# Altium integrated library Microchip Power Management Switching Regulator.IntLib: 304 symbols (part 1 of 9)
Pins are listed as number, name and electrical type; pins without a type are passive.

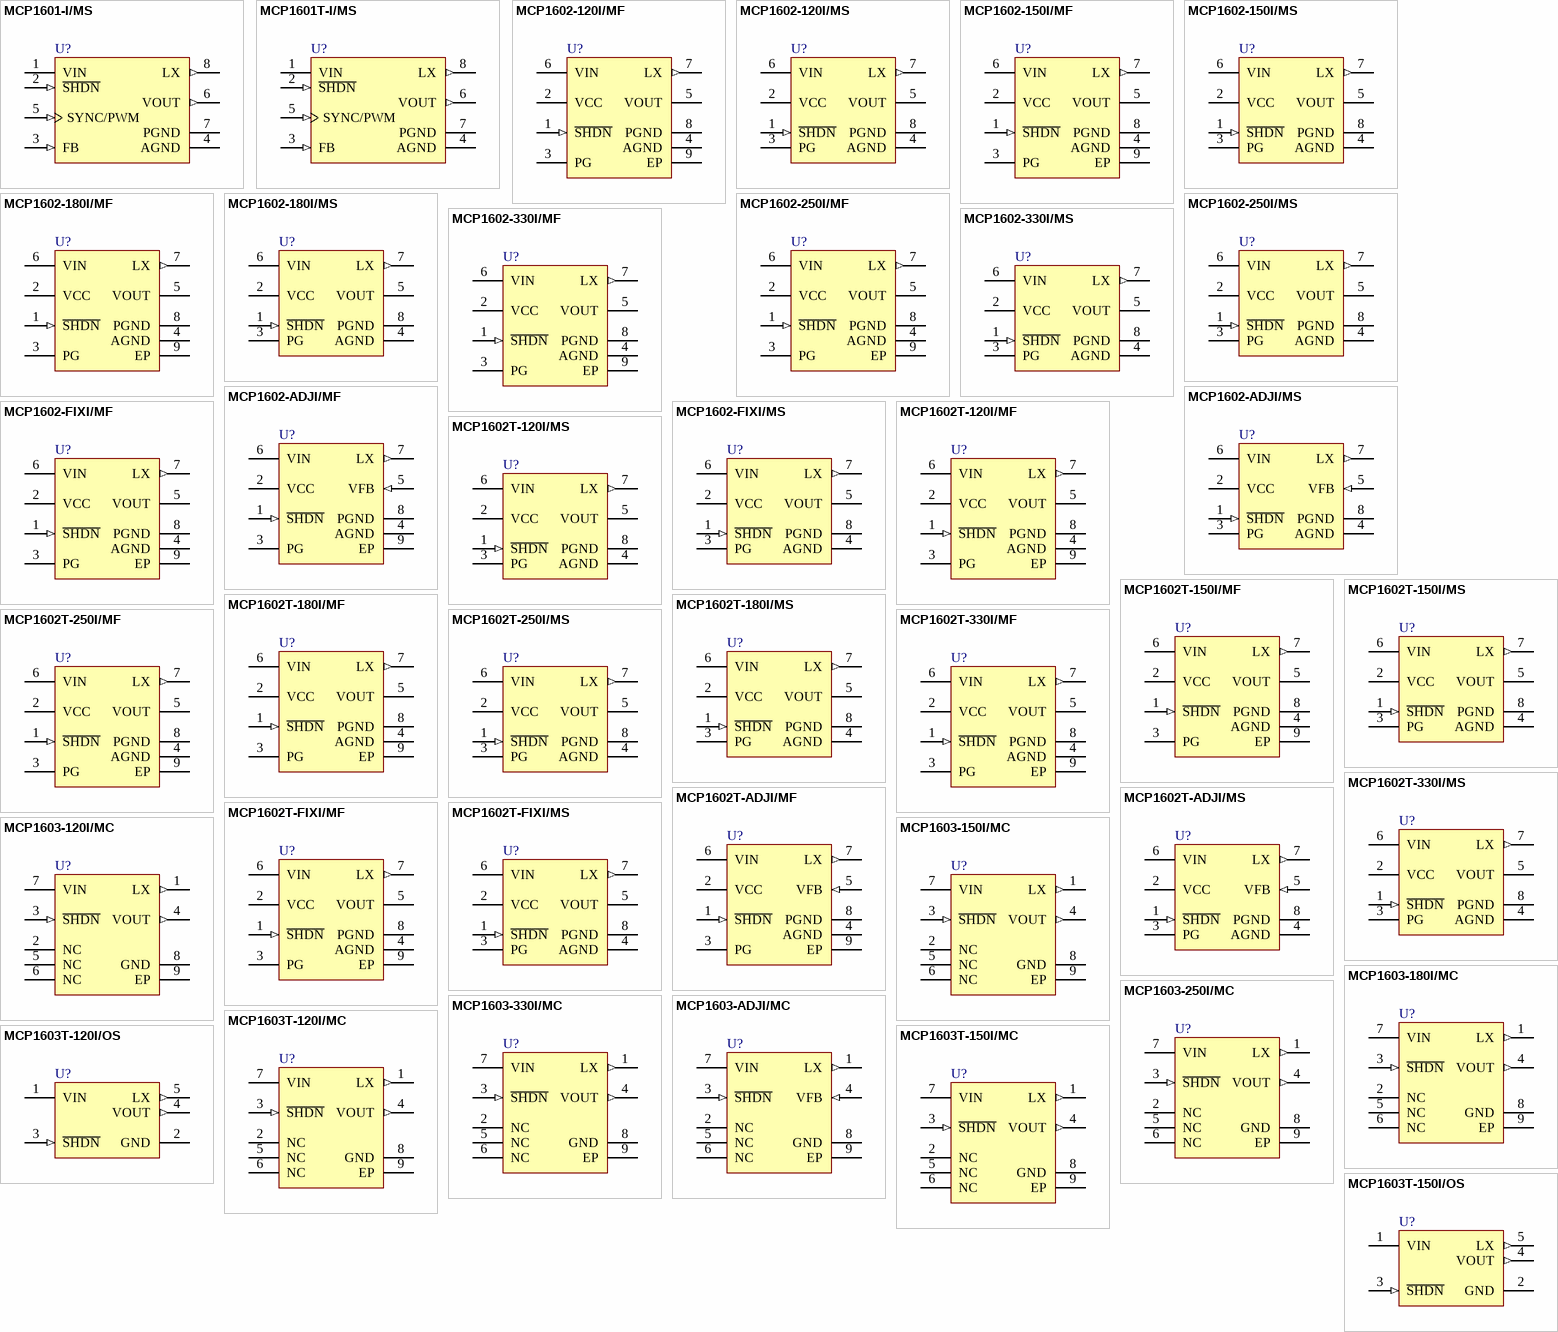
[diagram p0: symbols MCP1601-I/MS to MCP1603T-150I/OS]

## MCP1601-I/MS
designator U?
500mA Synchronous Buck Regulator, Adjustable Output, 750kHz, 8-Pin MSOP, Industrial Temperature; Manufacturer: Microchip; PartNumber: MCP1601-I/MS; DatasheetVersion: revA, Feb-2003; PackageVersion: revBB, Aug-2009; PackageReference: MSOP-MS8; PackageDescription: 8-Lead Plastic Micro Small Outline Package (MS) [MSOP]; Supplier 1: Digi-Key; Supplier Part Number 1: MCP1601-I/MS-ND; Supplier 2: Farnell; Supplier Part Number 2: 1439370; Supplier 3: Newark; Supplier Part Number 3: 03H5063; Supplier 4: Mouser; Supplier Part Number 4: 579-MCP1601-I/MS; Mounting Technology: Surface Mount; ComponentLink1Description: Manufacturer URL; ComponentLink1URL: http://www.microchip.com/; ComponentLink2Description: Datasheet; ComponentLink2URL: http://ww1.microchip.com/downloads/en/DeviceDoc/21762a.pdf; ComponentLink3Description: Package Specification; ComponentLink3URL: http://www.microchip.com/stellent/groups/techpub_sg/documents/packagingspec/en012702.pdf
footprint MSOP-MS8_N (TSOP, 8-Leads, Body 3x3mm, Pitch 0.65mm, IPC Medium Density)
footprint MSOP-MS8_L (TSOP, 8-Leads, Body 3x3mm, Pitch 0.65mm, IPC High Density)
footprint MSOP-MS8_M (TSOP, 8-Leads, Body 3x3mm, Pitch 0.65mm, IPC Low Density)
pins: 1 VIN (power), 2 ~{SHDN} (in), 3 FB (in), 4 AGND (power), 5 SYNC/PWM (in), 6 VOUT (out), 7 PGND (power), 8 LX (out)

## MCP1601T-I/MS
designator U?
500mA Synchronous Buck Regulator, Adjustable Output, 750kHz, 8-Pin MSOP, Industrial Temperature, Tape and Reel; Manufacturer: Microchip; PartNumber: MCP1601T-I/MS; DatasheetVersion: revA, Feb-2003; PackageVersion: revBB, Aug-2009; PackageReference: MSOP-MS8; PackageDescription: 8-Lead Plastic Micro Small Outline Package (MS) [MSOP]; Supplier 1: Digi-Key; Supplier Part Number 1: MCP1601T-I/MS-ND; Supplier 2: Mouser; Supplier Part Number 2: 579-MCP1601T-I/MS; Mounting Technology: Surface Mount; ComponentLink1Description: Manufacturer URL; ComponentLink1URL: http://www.microchip.com/; ComponentLink2Description: Datasheet; ComponentLink2URL: http://ww1.microchip.com/downloads/en/DeviceDoc/21762a.pdf; ComponentLink3Description: Package Specification; ComponentLink3URL: http://www.microchip.com/stellent/groups/techpub_sg/documents/packagingspec/en012702.pdf
footprint MSOP-MS8_N (TSOP, 8-Leads, Body 3x3mm, Pitch 0.65mm, IPC Medium Density)
footprint MSOP-MS8_L (TSOP, 8-Leads, Body 3x3mm, Pitch 0.65mm, IPC High Density)
footprint MSOP-MS8_M (TSOP, 8-Leads, Body 3x3mm, Pitch 0.65mm, IPC Low Density)
pins: 1 VIN (power), 2 ~{SHDN} (in), 3 FB (in), 4 AGND (power), 5 SYNC/PWM (in), 6 VOUT (out), 7 PGND (power), 8 LX (out)

## MCP1602-120I/MF
designator U?
500mA Synchronous Buck Regulator with PG, 1.2V, 2MHz, 8-Pin DFN, Industrial Temperature; Manufacturer: Microchip; PartNumber: MCP1602-120I/MF; DatasheetVersion: revA, Oct-2007; PackageVersion: revBB, Aug-2009; PackageReference: DFN-MF8; PackageDescription: 8-Lead Plastic Dual Flat, No Lead Package (MF) - 3x3x0.9mm Body [DFN]; Supplier 1: Digi-Key; Supplier Part Number 1: MCP1602-120I/MF-ND; Supplier 2: Mouser; Supplier Part Number 2: 579-MCP1602-120I/MF; Mounting Technology: Surface Mount; ComponentLink1Description: Manufacturer URL; ComponentLink1URL: http://www.microchip.com/; ComponentLink2Description: Datasheet; ComponentLink2URL: http://ww1.microchip.com/downloads/en/DeviceDoc/22061a.pdf; ComponentLink3Description: Package Specification; ComponentLink3URL: http://www.microchip.com/stellent/groups/techpub_sg/documents/packagingspec/en012702.pdf
footprint DFN-MF8 (SON, 8-Leads, Body 3x3mm, Pitch 0.65mm, Microchip Recommended)
pins: 1 ~{SHDN} (in), 2 VCC (power), 3 PG (oc), 4 AGND (power), 5 VOUT (power), 6 VIN (power), 7 LX (out), 8 PGND (power), 9 EP (power)

## MCP1602-120I/MS
designator U?
500mA Synchronous Buck Regulator with PG, 1.2V, 2MHz, 8-Pin MSOP, Industrial Temperature; Manufacturer: Microchip; PartNumber: MCP1602-120I/MS; DatasheetVersion: revA, Oct-2007; PackageVersion: revBB, Aug-2009; PackageReference: MSOP-MS8; PackageDescription: 8-Lead Plastic Micro Small Outline Package (MS) [MSOP]; Supplier 1: Digi-Key; Supplier Part Number 1: MCP1602-120I/MS-ND; Supplier 2: Mouser; Supplier Part Number 2: 579-MCP1602-120I/MS; Mounting Technology: Surface Mount; ComponentLink1Description: Manufacturer URL; ComponentLink1URL: http://www.microchip.com/; ComponentLink2Description: Datasheet; ComponentLink2URL: http://ww1.microchip.com/downloads/en/DeviceDoc/22061a.pdf; ComponentLink3Description: Package Specification; ComponentLink3URL: http://www.microchip.com/stellent/groups/techpub_sg/documents/packagingspec/en012702.pdf
footprint MSOP-MS8_N (TSOP, 8-Leads, Body 3x3mm, Pitch 0.65mm, IPC Medium Density)
footprint MSOP-MS8_L (TSOP, 8-Leads, Body 3x3mm, Pitch 0.65mm, IPC High Density)
footprint MSOP-MS8_M (TSOP, 8-Leads, Body 3x3mm, Pitch 0.65mm, IPC Low Density)
pins: 1 ~{SHDN} (in), 2 VCC (power), 3 PG (oc), 4 AGND (power), 5 VOUT (power), 6 VIN (power), 7 LX (out), 8 PGND (power)

## MCP1602-150I/MF
designator U?
500mA Synchronous Buck Regulator with PG, 1.5V, 2MHz, 8-Pin DFN, Industrial Temperature; Manufacturer: Microchip; PartNumber: MCP1602-150I/MF; DatasheetVersion: revA, Oct-2007; PackageVersion: revBB, Aug-2009; PackageReference: DFN-MF8; PackageDescription: 8-Lead Plastic Dual Flat, No Lead Package (MF) - 3x3x0.9mm Body [DFN]; Supplier 1: Digi-Key; Supplier Part Number 1: MCP1602-150I/MF-ND; Supplier 2: Mouser; Supplier Part Number 2: 579-MCP1602-150I/MF; Mounting Technology: Surface Mount; ComponentLink1Description: Manufacturer URL; ComponentLink1URL: http://www.microchip.com/; ComponentLink2Description: Datasheet; ComponentLink2URL: http://ww1.microchip.com/downloads/en/DeviceDoc/22061a.pdf; ComponentLink3Description: Package Specification; ComponentLink3URL: http://www.microchip.com/stellent/groups/techpub_sg/documents/packagingspec/en012702.pdf
footprint DFN-MF8 (SON, 8-Leads, Body 3x3mm, Pitch 0.65mm, Microchip Recommended)
pins: 1 ~{SHDN} (in), 2 VCC (power), 3 PG (oc), 4 AGND (power), 5 VOUT (power), 6 VIN (power), 7 LX (out), 8 PGND (power), 9 EP (power)

## MCP1602-150I/MS
designator U?
500mA Synchronous Buck Regulator with PG, 1.5V, 2MHz, 8-Pin MSOP, Industrial Temperature; Manufacturer: Microchip; PartNumber: MCP1602-150I/MS; DatasheetVersion: revA, Oct-2007; PackageVersion: revBB, Aug-2009; PackageReference: MSOP-MS8; PackageDescription: 8-Lead Plastic Micro Small Outline Package (MS) [MSOP]; Supplier 1: Digi-Key; Supplier Part Number 1: MCP1602-150I/MS-ND; Supplier 2: Mouser; Supplier Part Number 2: 579-MCP1602-150I/MS; Mounting Technology: Surface Mount; ComponentLink1Description: Manufacturer URL; ComponentLink1URL: http://www.microchip.com/; ComponentLink2Description: Datasheet; ComponentLink2URL: http://ww1.microchip.com/downloads/en/DeviceDoc/22061a.pdf; ComponentLink3Description: Package Specification; ComponentLink3URL: http://www.microchip.com/stellent/groups/techpub_sg/documents/packagingspec/en012702.pdf
footprint MSOP-MS8_N (TSOP, 8-Leads, Body 3x3mm, Pitch 0.65mm, IPC Medium Density)
footprint MSOP-MS8_L (TSOP, 8-Leads, Body 3x3mm, Pitch 0.65mm, IPC High Density)
footprint MSOP-MS8_M (TSOP, 8-Leads, Body 3x3mm, Pitch 0.65mm, IPC Low Density)
pins: 1 ~{SHDN} (in), 2 VCC (power), 3 PG (oc), 4 AGND (power), 5 VOUT (power), 6 VIN (power), 7 LX (out), 8 PGND (power)

## MCP1602-180I/MF
designator U?
500mA Synchronous Buck Regulator with PG, 1.8V, 2MHz, 8-Pin DFN, Industrial Temperature; Manufacturer: Microchip; PartNumber: MCP1602-180I/MF; DatasheetVersion: revA, Oct-2007; PackageVersion: revBB, Aug-2009; PackageReference: DFN-MF8; PackageDescription: 8-Lead Plastic Dual Flat, No Lead Package (MF) - 3x3x0.9mm Body [DFN]; Supplier 1: Digi-Key; Supplier Part Number 1: MCP1602-180I/MF-ND; Supplier 2: Mouser; Supplier Part Number 2: 579-MCP1602-180I/MF; Mounting Technology: Surface Mount; ComponentLink1Description: Manufacturer URL; ComponentLink1URL: http://www.microchip.com/; ComponentLink2Description: Datasheet; ComponentLink2URL: http://ww1.microchip.com/downloads/en/DeviceDoc/22061a.pdf; ComponentLink3Description: Package Specification; ComponentLink3URL: http://www.microchip.com/stellent/groups/techpub_sg/documents/packagingspec/en012702.pdf
footprint DFN-MF8 (SON, 8-Leads, Body 3x3mm, Pitch 0.65mm, Microchip Recommended)
pins: 1 ~{SHDN} (in), 2 VCC (power), 3 PG (oc), 4 AGND (power), 5 VOUT (power), 6 VIN (power), 7 LX (out), 8 PGND (power), 9 EP (power)

## MCP1602-180I/MS
designator U?
500mA Synchronous Buck Regulator with PG, 1.8V, 2MHz, 8-Pin MSOP, Industrial Temperature; Manufacturer: Microchip; PartNumber: MCP1602-180I/MS; DatasheetVersion: revA, Oct-2007; PackageVersion: revBB, Aug-2009; PackageReference: MSOP-MS8; PackageDescription: 8-Lead Plastic Micro Small Outline Package (MS) [MSOP]; Supplier 1: Digi-Key; Supplier Part Number 1: MCP1602-180I/MS-ND; Supplier 2: Mouser; Supplier Part Number 2: 579-MCP1602-180I/MS; Mounting Technology: Surface Mount; ComponentLink1Description: Manufacturer URL; ComponentLink1URL: http://www.microchip.com/; ComponentLink2Description: Datasheet; ComponentLink2URL: http://ww1.microchip.com/downloads/en/DeviceDoc/22061a.pdf; ComponentLink3Description: Package Specification; ComponentLink3URL: http://www.microchip.com/stellent/groups/techpub_sg/documents/packagingspec/en012702.pdf
footprint MSOP-MS8_N (TSOP, 8-Leads, Body 3x3mm, Pitch 0.65mm, IPC Medium Density)
footprint MSOP-MS8_L (TSOP, 8-Leads, Body 3x3mm, Pitch 0.65mm, IPC High Density)
footprint MSOP-MS8_M (TSOP, 8-Leads, Body 3x3mm, Pitch 0.65mm, IPC Low Density)
pins: 1 ~{SHDN} (in), 2 VCC (power), 3 PG (oc), 4 AGND (power), 5 VOUT (power), 6 VIN (power), 7 LX (out), 8 PGND (power)

## MCP1602-250I/MF
designator U?
500mA Synchronous Buck Regulator with PG, 2.5V, 2MHz, 8-Pin DFN, Industrial Temperature; Manufacturer: Microchip; PartNumber: MCP1602-250I/MF; DatasheetVersion: revA, Oct-2007; PackageVersion: revBB, Aug-2009; PackageReference: DFN-MF8; PackageDescription: 8-Lead Plastic Dual Flat, No Lead Package (MF) - 3x3x0.9mm Body [DFN]; Supplier 1: Digi-Key; Supplier Part Number 1: MCP1602-250I/MF-ND; Supplier 2: Mouser; Supplier Part Number 2: 579-MCP1602-250I/MF; Mounting Technology: Surface Mount; ComponentLink1Description: Manufacturer URL; ComponentLink1URL: http://www.microchip.com/; ComponentLink2Description: Datasheet; ComponentLink2URL: http://ww1.microchip.com/downloads/en/DeviceDoc/22061a.pdf; ComponentLink3Description: Package Specification; ComponentLink3URL: http://www.microchip.com/stellent/groups/techpub_sg/documents/packagingspec/en012702.pdf
footprint DFN-MF8 (SON, 8-Leads, Body 3x3mm, Pitch 0.65mm, Microchip Recommended)
pins: 1 ~{SHDN} (in), 2 VCC (power), 3 PG (oc), 4 AGND (power), 5 VOUT (power), 6 VIN (power), 7 LX (out), 8 PGND (power), 9 EP (power)

## MCP1602-250I/MS
designator U?
500mA Synchronous Buck Regulator with PG, 2.5V, 2MHz, 8-Pin MSOP, Industrial Temperature; Manufacturer: Microchip; PartNumber: MCP1602-250I/MS; DatasheetVersion: revA, Oct-2007; PackageVersion: revBB, Aug-2009; PackageReference: MSOP-MS8; PackageDescription: 8-Lead Plastic Micro Small Outline Package (MS) [MSOP]; Supplier 1: Digi-Key; Supplier Part Number 1: MCP1602-250I/MS-ND; Supplier 2: Farnell; Supplier Part Number 2: 1851928; Supplier 3: Newark; Supplier Part Number 3: 88K5539; Supplier 4: Mouser; Supplier Part Number 4: 579-MCP1602-250I/MS; Mounting Technology: Surface Mount; ComponentLink1Description: Manufacturer URL; ComponentLink1URL: http://www.microchip.com/; ComponentLink2Description: Datasheet; ComponentLink2URL: http://ww1.microchip.com/downloads/en/DeviceDoc/22061a.pdf; ComponentLink3Description: Package Specification; ComponentLink3URL: http://www.microchip.com/stellent/groups/techpub_sg/documents/packagingspec/en012702.pdf
footprint MSOP-MS8_N (TSOP, 8-Leads, Body 3x3mm, Pitch 0.65mm, IPC Medium Density)
footprint MSOP-MS8_L (TSOP, 8-Leads, Body 3x3mm, Pitch 0.65mm, IPC High Density)
footprint MSOP-MS8_M (TSOP, 8-Leads, Body 3x3mm, Pitch 0.65mm, IPC Low Density)
pins: 1 ~{SHDN} (in), 2 VCC (power), 3 PG (oc), 4 AGND (power), 5 VOUT (power), 6 VIN (power), 7 LX (out), 8 PGND (power)

## MCP1602-330I/MF
designator U?
500mA Synchronous Buck Regulator with PG, 3.3V, 2MHz, 8-Pin DFN, Industrial Temperature; Manufacturer: Microchip; PartNumber: MCP1602-330I/MF; DatasheetVersion: revA, Oct-2007; PackageVersion: revBB, Aug-2009; PackageReference: DFN-MF8; PackageDescription: 8-Lead Plastic Dual Flat, No Lead Package (MF) - 3x3x0.9mm Body [DFN]; Supplier 1: Digi-Key; Supplier Part Number 1: MCP1602-330I/MF-ND; Supplier 2: Mouser; Supplier Part Number 2: 579-MCP1602-330I/MF; Mounting Technology: Surface Mount; ComponentLink1Description: Manufacturer URL; ComponentLink1URL: http://www.microchip.com/; ComponentLink2Description: Datasheet; ComponentLink2URL: http://ww1.microchip.com/downloads/en/DeviceDoc/22061a.pdf; ComponentLink3Description: Package Specification; ComponentLink3URL: http://www.microchip.com/stellent/groups/techpub_sg/documents/packagingspec/en012702.pdf
footprint DFN-MF8 (SON, 8-Leads, Body 3x3mm, Pitch 0.65mm, Microchip Recommended)
pins: 1 ~{SHDN} (in), 2 VCC (power), 3 PG (oc), 4 AGND (power), 5 VOUT (power), 6 VIN (power), 7 LX (out), 8 PGND (power), 9 EP (power)

## MCP1602-330I/MS
designator U?
500mA Synchronous Buck Regulator with PG, 3.3V, 2MHz, 8-Pin MSOP, Industrial Temperature; Manufacturer: Microchip; PartNumber: MCP1602-330I/MS; DatasheetVersion: revA, Oct-2007; PackageVersion: revBB, Aug-2009; PackageReference: MSOP-MS8; PackageDescription: 8-Lead Plastic Micro Small Outline Package (MS) [MSOP]; Supplier 1: Digi-Key; Supplier Part Number 1: MCP1602-330I/MS-ND; Supplier 2: Farnell; Supplier Part Number 2: 1578359; Supplier 3: Newark; Supplier Part Number 3: 08N6436; Supplier 4: Mouser; Supplier Part Number 4: 579-MCP1602-330I/MS; Mounting Technology: Surface Mount; ComponentLink1Description: Manufacturer URL; ComponentLink1URL: http://www.microchip.com/; ComponentLink2Description: Datasheet; ComponentLink2URL: http://ww1.microchip.com/downloads/en/DeviceDoc/22061a.pdf; ComponentLink3Description: Package Specification; ComponentLink3URL: http://www.microchip.com/stellent/groups/techpub_sg/documents/packagingspec/en012702.pdf
footprint MSOP-MS8_N (TSOP, 8-Leads, Body 3x3mm, Pitch 0.65mm, IPC Medium Density)
footprint MSOP-MS8_L (TSOP, 8-Leads, Body 3x3mm, Pitch 0.65mm, IPC High Density)
footprint MSOP-MS8_M (TSOP, 8-Leads, Body 3x3mm, Pitch 0.65mm, IPC Low Density)
pins: 1 ~{SHDN} (in), 2 VCC (power), 3 PG (oc), 4 AGND (power), 5 VOUT (power), 6 VIN (power), 7 LX (out), 8 PGND (power)

## MCP1602-ADJI/MF
designator U?
500mA Synchronous Buck Regulator with PG, Adjustable Output, 2MHz, 8-Pin DFN, Industrial Temperature; Manufacturer: Microchip; PartNumber: MCP1602-ADJI/MF; DatasheetVersion: revA, Oct-2007; PackageVersion: revBB, Aug-2009; PackageReference: DFN-MF8; PackageDescription: 8-Lead Plastic Dual Flat, No Lead Package (MF) - 3x3x0.9mm Body [DFN]; Supplier 1: Digi-Key; Supplier Part Number 1: MCP1602-ADJI/MF-ND; Supplier 2: Mouser; Supplier Part Number 2: 579-MCP1602-ADJI/MF; Mounting Technology: Surface Mount; ComponentLink1Description: Manufacturer URL; ComponentLink1URL: http://www.microchip.com/; ComponentLink2Description: Datasheet; ComponentLink2URL: http://ww1.microchip.com/downloads/en/DeviceDoc/22061a.pdf; ComponentLink3Description: Package Specification; ComponentLink3URL: http://www.microchip.com/stellent/groups/techpub_sg/documents/packagingspec/en012702.pdf
footprint DFN-MF8 (SON, 8-Leads, Body 3x3mm, Pitch 0.65mm, Microchip Recommended)
pins: 1 ~{SHDN} (in), 2 VCC (power), 3 PG (oc), 4 AGND (power), 5 VFB (in), 6 VIN (power), 7 LX (out), 8 PGND (power), 9 EP (power)

## MCP1602-ADJI/MS
designator U?
500mA Synchronous Buck Regulator with PG, Adjustable Output, 2MHz, 8-Pin MSOP, Industrial Temperature; Manufacturer: Microchip; PartNumber: MCP1602-ADJI/MS; DatasheetVersion: revA, Oct-2007; PackageVersion: revBB, Aug-2009; PackageReference: MSOP-MS8; PackageDescription: 8-Lead Plastic Micro Small Outline Package (MS) [MSOP]; Supplier 1: Digi-Key; Supplier Part Number 1: MCP1602-ADJI/MS-ND; Supplier 2: Farnell; Supplier Part Number 2: 1578361; Supplier 3: Mouser; Supplier Part Number 3: 579-MCP1602-ADJI/MS; Mounting Technology: Surface Mount; ComponentLink1Description: Manufacturer URL; ComponentLink1URL: http://www.microchip.com/; ComponentLink2Description: Datasheet; ComponentLink2URL: http://ww1.microchip.com/downloads/en/DeviceDoc/22061a.pdf; ComponentLink3Description: Package Specification; ComponentLink3URL: http://www.microchip.com/stellent/groups/techpub_sg/documents/packagingspec/en012702.pdf
footprint MSOP-MS8_N (TSOP, 8-Leads, Body 3x3mm, Pitch 0.65mm, IPC Medium Density)
footprint MSOP-MS8_L (TSOP, 8-Leads, Body 3x3mm, Pitch 0.65mm, IPC High Density)
footprint MSOP-MS8_M (TSOP, 8-Leads, Body 3x3mm, Pitch 0.65mm, IPC Low Density)
pins: 1 ~{SHDN} (in), 2 VCC (power), 3 PG (oc), 4 AGND (power), 5 VFB (in), 6 VIN (power), 7 LX (out), 8 PGND (power)

## MCP1602-FIXI/MF
designator U?
500mA Synchronous Buck Regulator with PG, 2MHz, 8-Pin DFN, Industrial Temperature; Manufacturer: Microchip; PartNumber: MCP1602-FIXI/MF; DatasheetVersion: revA, Oct-2007; PackageVersion: revBB, Aug-2009; PackageReference: DFN-MF8; PackageDescription: 8-Lead Plastic Dual Flat, No Lead Package (MF) - 3x3x0.9mm Body [DFN]; Mounting Technology: Surface Mount; ComponentLink1Description: Manufacturer URL; ComponentLink1URL: http://www.microchip.com/; ComponentLink2Description: Datasheet; ComponentLink2URL: http://ww1.microchip.com/downloads/en/DeviceDoc/22061a.pdf; ComponentLink3Description: Package Specification; ComponentLink3URL: http://www.microchip.com/stellent/groups/techpub_sg/documents/packagingspec/en012702.pdf
footprint DFN-MF8 (SON, 8-Leads, Body 3x3mm, Pitch 0.65mm, Microchip Recommended)
pins: 1 ~{SHDN} (in), 2 VCC (power), 3 PG (oc), 4 AGND (power), 5 VOUT (power), 6 VIN (power), 7 LX (out), 8 PGND (power), 9 EP (power)

## MCP1602-FIXI/MS
designator U?
500mA Synchronous Buck Regulator with PG, 2MHz, 8-Pin MSOP, Industrial Temperature; Manufacturer: Microchip; PartNumber: MCP1602-FIXI/MS; DatasheetVersion: revA, Oct-2007; PackageVersion: revBB, Aug-2009; PackageReference: MSOP-MS8; PackageDescription: 8-Lead Plastic Micro Small Outline Package (MS) [MSOP]; Mounting Technology: Surface Mount; ComponentLink1Description: Manufacturer URL; ComponentLink1URL: http://www.microchip.com/; ComponentLink2Description: Datasheet; ComponentLink2URL: http://ww1.microchip.com/downloads/en/DeviceDoc/22061a.pdf; ComponentLink3Description: Package Specification; ComponentLink3URL: http://www.microchip.com/stellent/groups/techpub_sg/documents/packagingspec/en012702.pdf
footprint MSOP-MS8_N (TSOP, 8-Leads, Body 3x3mm, Pitch 0.65mm, IPC Medium Density)
footprint MSOP-MS8_L (TSOP, 8-Leads, Body 3x3mm, Pitch 0.65mm, IPC High Density)
footprint MSOP-MS8_M (TSOP, 8-Leads, Body 3x3mm, Pitch 0.65mm, IPC Low Density)
pins: 1 ~{SHDN} (in), 2 VCC (power), 3 PG (oc), 4 AGND (power), 5 VOUT (power), 6 VIN (power), 7 LX (out), 8 PGND (power)

## MCP1602T-120I/MF
designator U?
500mA Synchronous Buck Regulator with PG, 1.2V, 2MHz, 8-Pin DFN, Industrial Temperature, Tape and Reel; Manufacturer: Microchip; PartNumber: MCP1602T-120I/MF; DatasheetVersion: revA, Oct-2007; PackageVersion: revBB, Aug-2009; PackageReference: DFN-MF8; PackageDescription: 8-Lead Plastic Dual Flat, No Lead Package (MF) - 3x3x0.9mm Body [DFN]; Supplier 1: Digi-Key; Supplier Part Number 1: MCP1602T-120I/MFTR-ND; Supplier 2: Mouser; Supplier Part Number 2: 579-MCP1602T-120I/MF; Mounting Technology: Surface Mount; ComponentLink1Description: Manufacturer URL; ComponentLink1URL: http://www.microchip.com/; ComponentLink2Description: Datasheet; ComponentLink2URL: http://ww1.microchip.com/downloads/en/DeviceDoc/22061a.pdf; ComponentLink3Description: Package Specification; ComponentLink3URL: http://www.microchip.com/stellent/groups/techpub_sg/documents/packagingspec/en012702.pdf
footprint DFN-MF8 (SON, 8-Leads, Body 3x3mm, Pitch 0.65mm, Microchip Recommended)
pins: 1 ~{SHDN} (in), 2 VCC (power), 3 PG (oc), 4 AGND (power), 5 VOUT (power), 6 VIN (power), 7 LX (out), 8 PGND (power), 9 EP (power)

## MCP1602T-120I/MS
designator U?
500mA Synchronous Buck Regulator with PG, 1.2V, 2MHz, 8-Pin MSOP, Industrial Temperature, Tape and Reel; Manufacturer: Microchip; PartNumber: MCP1602T-120I/MS; DatasheetVersion: revA, Oct-2007; PackageVersion: revBB, Aug-2009; PackageReference: MSOP-MS8; PackageDescription: 8-Lead Plastic Micro Small Outline Package (MS) [MSOP]; Supplier 1: Digi-Key; Supplier Part Number 1: MCP1602T-120I/MSTR-ND; Supplier 2: Mouser; Supplier Part Number 2: 579-MCP1602T-120I/MS; Mounting Technology: Surface Mount; ComponentLink1Description: Manufacturer URL; ComponentLink1URL: http://www.microchip.com/; ComponentLink2Description: Datasheet; ComponentLink2URL: http://ww1.microchip.com/downloads/en/DeviceDoc/22061a.pdf; ComponentLink3Description: Package Specification; ComponentLink3URL: http://www.microchip.com/stellent/groups/techpub_sg/documents/packagingspec/en012702.pdf
footprint MSOP-MS8_N (TSOP, 8-Leads, Body 3x3mm, Pitch 0.65mm, IPC Medium Density)
footprint MSOP-MS8_L (TSOP, 8-Leads, Body 3x3mm, Pitch 0.65mm, IPC High Density)
footprint MSOP-MS8_M (TSOP, 8-Leads, Body 3x3mm, Pitch 0.65mm, IPC Low Density)
pins: 1 ~{SHDN} (in), 2 VCC (power), 3 PG (oc), 4 AGND (power), 5 VOUT (power), 6 VIN (power), 7 LX (out), 8 PGND (power)

## MCP1602T-150I/MF
designator U?
500mA Synchronous Buck Regulator with PG, 1.5V, 2MHz, 8-Pin DFN, Industrial Temperature, Tape and Reel; Manufacturer: Microchip; PartNumber: MCP1602T-150I/MF; DatasheetVersion: revA, Oct-2007; PackageVersion: revBB, Aug-2009; PackageReference: DFN-MF8; PackageDescription: 8-Lead Plastic Dual Flat, No Lead Package (MF) - 3x3x0.9mm Body [DFN]; Supplier 1: Digi-Key; Supplier Part Number 1: MCP1602T-150I/MFTR-ND; Supplier 2: Mouser; Supplier Part Number 2: 579-MCP1602T-150I/MF; Mounting Technology: Surface Mount; ComponentLink1Description: Manufacturer URL; ComponentLink1URL: http://www.microchip.com/; ComponentLink2Description: Datasheet; ComponentLink2URL: http://ww1.microchip.com/downloads/en/DeviceDoc/22061a.pdf; ComponentLink3Description: Package Specification; ComponentLink3URL: http://www.microchip.com/stellent/groups/techpub_sg/documents/packagingspec/en012702.pdf
footprint DFN-MF8 (SON, 8-Leads, Body 3x3mm, Pitch 0.65mm, Microchip Recommended)
pins: 1 ~{SHDN} (in), 2 VCC (power), 3 PG (oc), 4 AGND (power), 5 VOUT (power), 6 VIN (power), 7 LX (out), 8 PGND (power), 9 EP (power)

## MCP1602T-150I/MS
designator U?
500mA Synchronous Buck Regulator with PG, 1.5V, 2MHz, 8-Pin MSOP, Industrial Temperature, Tape and Reel; Manufacturer: Microchip; PartNumber: MCP1602T-150I/MS; DatasheetVersion: revA, Oct-2007; PackageVersion: revBB, Aug-2009; PackageReference: MSOP-MS8; PackageDescription: 8-Lead Plastic Micro Small Outline Package (MS) [MSOP]; Supplier 1: Digi-Key; Supplier Part Number 1: MCP1602T-150I/MSTR-ND; Supplier 2: Mouser; Supplier Part Number 2: 579-MCP1602T-150I/MS; Mounting Technology: Surface Mount; ComponentLink1Description: Manufacturer URL; ComponentLink1URL: http://www.microchip.com/; ComponentLink2Description: Datasheet; ComponentLink2URL: http://ww1.microchip.com/downloads/en/DeviceDoc/22061a.pdf; ComponentLink3Description: Package Specification; ComponentLink3URL: http://www.microchip.com/stellent/groups/techpub_sg/documents/packagingspec/en012702.pdf
footprint MSOP-MS8_N (TSOP, 8-Leads, Body 3x3mm, Pitch 0.65mm, IPC Medium Density)
footprint MSOP-MS8_L (TSOP, 8-Leads, Body 3x3mm, Pitch 0.65mm, IPC High Density)
footprint MSOP-MS8_M (TSOP, 8-Leads, Body 3x3mm, Pitch 0.65mm, IPC Low Density)
pins: 1 ~{SHDN} (in), 2 VCC (power), 3 PG (oc), 4 AGND (power), 5 VOUT (power), 6 VIN (power), 7 LX (out), 8 PGND (power)

## MCP1602T-180I/MF
designator U?
500mA Synchronous Buck Regulator with PG, 1.8V, 2MHz, 8-Pin DFN, Industrial Temperature, Tape and Reel; Manufacturer: Microchip; PartNumber: MCP1602T-180I/MF; DatasheetVersion: revA, Oct-2007; PackageVersion: revBB, Aug-2009; PackageReference: DFN-MF8; PackageDescription: 8-Lead Plastic Dual Flat, No Lead Package (MF) - 3x3x0.9mm Body [DFN]; Supplier 1: Digi-Key; Supplier Part Number 1: MCP1602T-180I/MFTR-ND; Supplier 2: Mouser; Supplier Part Number 2: 579-MCP1602T-180I/MF; Mounting Technology: Surface Mount; ComponentLink1Description: Manufacturer URL; ComponentLink1URL: http://www.microchip.com/; ComponentLink2Description: Datasheet; ComponentLink2URL: http://ww1.microchip.com/downloads/en/DeviceDoc/22061a.pdf; ComponentLink3Description: Package Specification; ComponentLink3URL: http://www.microchip.com/stellent/groups/techpub_sg/documents/packagingspec/en012702.pdf
footprint DFN-MF8 (SON, 8-Leads, Body 3x3mm, Pitch 0.65mm, Microchip Recommended)
pins: 1 ~{SHDN} (in), 2 VCC (power), 3 PG (oc), 4 AGND (power), 5 VOUT (power), 6 VIN (power), 7 LX (out), 8 PGND (power), 9 EP (power)

## MCP1602T-180I/MS
designator U?
500mA Synchronous Buck Regulator with PG, 1.8V, 2MHz, 8-Pin MSOP, Industrial Temperature, Tape and Reel; Manufacturer: Microchip; PartNumber: MCP1602T-180I/MS; DatasheetVersion: revA, Oct-2007; PackageVersion: revBB, Aug-2009; PackageReference: MSOP-MS8; PackageDescription: 8-Lead Plastic Micro Small Outline Package (MS) [MSOP]; Supplier 1: Digi-Key; Supplier Part Number 1: MCP1602T-180I/MSTR-ND; Supplier 2: Mouser; Supplier Part Number 2: 579-MCP1602T-180I/MS; Mounting Technology: Surface Mount; ComponentLink1Description: Manufacturer URL; ComponentLink1URL: http://www.microchip.com/; ComponentLink2Description: Datasheet; ComponentLink2URL: http://ww1.microchip.com/downloads/en/DeviceDoc/22061a.pdf; ComponentLink3Description: Package Specification; ComponentLink3URL: http://www.microchip.com/stellent/groups/techpub_sg/documents/packagingspec/en012702.pdf
footprint MSOP-MS8_N (TSOP, 8-Leads, Body 3x3mm, Pitch 0.65mm, IPC Medium Density)
footprint MSOP-MS8_L (TSOP, 8-Leads, Body 3x3mm, Pitch 0.65mm, IPC High Density)
footprint MSOP-MS8_M (TSOP, 8-Leads, Body 3x3mm, Pitch 0.65mm, IPC Low Density)
pins: 1 ~{SHDN} (in), 2 VCC (power), 3 PG (oc), 4 AGND (power), 5 VOUT (power), 6 VIN (power), 7 LX (out), 8 PGND (power)

## MCP1602T-250I/MF
designator U?
500mA Synchronous Buck Regulator with PG, 2.5V, 2MHz, 8-Pin DFN, Industrial Temperature, Tape and Reel; Manufacturer: Microchip; PartNumber: MCP1602T-250I/MF; DatasheetVersion: revA, Oct-2007; PackageVersion: revBB, Aug-2009; PackageReference: DFN-MF8; PackageDescription: 8-Lead Plastic Dual Flat, No Lead Package (MF) - 3x3x0.9mm Body [DFN]; Supplier 1: Digi-Key; Supplier Part Number 1: MCP1602T-250I/MFTR-ND; Supplier 2: Mouser; Supplier Part Number 2: 579-MCP1602T-250I/MF; Mounting Technology: Surface Mount; ComponentLink1Description: Manufacturer URL; ComponentLink1URL: http://www.microchip.com/; ComponentLink2Description: Datasheet; ComponentLink2URL: http://ww1.microchip.com/downloads/en/DeviceDoc/22061a.pdf; ComponentLink3Description: Package Specification; ComponentLink3URL: http://www.microchip.com/stellent/groups/techpub_sg/documents/packagingspec/en012702.pdf
footprint DFN-MF8 (SON, 8-Leads, Body 3x3mm, Pitch 0.65mm, Microchip Recommended)
pins: 1 ~{SHDN} (in), 2 VCC (power), 3 PG (oc), 4 AGND (power), 5 VOUT (power), 6 VIN (power), 7 LX (out), 8 PGND (power), 9 EP (power)

## MCP1602T-250I/MS
designator U?
500mA Synchronous Buck Regulator with PG, 2.5V, 2MHz, 8-Pin MSOP, Industrial Temperature, Tape and Reel; Manufacturer: Microchip; PartNumber: MCP1602T-250I/MS; DatasheetVersion: revA, Oct-2007; PackageVersion: revBB, Aug-2009; PackageReference: MSOP-MS8; PackageDescription: 8-Lead Plastic Micro Small Outline Package (MS) [MSOP]; Supplier 1: Digi-Key; Supplier Part Number 1: MCP1602T-250I/MSTR-ND; Supplier 2: Mouser; Supplier Part Number 2: 579-MCP1602T-250I/MS; Mounting Technology: Surface Mount; ComponentLink1Description: Manufacturer URL; ComponentLink1URL: http://www.microchip.com/; ComponentLink2Description: Datasheet; ComponentLink2URL: http://ww1.microchip.com/downloads/en/DeviceDoc/22061a.pdf; ComponentLink3Description: Package Specification; ComponentLink3URL: http://www.microchip.com/stellent/groups/techpub_sg/documents/packagingspec/en012702.pdf
footprint MSOP-MS8_N (TSOP, 8-Leads, Body 3x3mm, Pitch 0.65mm, IPC Medium Density)
footprint MSOP-MS8_L (TSOP, 8-Leads, Body 3x3mm, Pitch 0.65mm, IPC High Density)
footprint MSOP-MS8_M (TSOP, 8-Leads, Body 3x3mm, Pitch 0.65mm, IPC Low Density)
pins: 1 ~{SHDN} (in), 2 VCC (power), 3 PG (oc), 4 AGND (power), 5 VOUT (power), 6 VIN (power), 7 LX (out), 8 PGND (power)

## MCP1602T-330I/MF
designator U?
500mA Synchronous Buck Regulator with PG, 3.3V, 2MHz, 8-Pin DFN, Industrial Temperature, Tape and Reel; Manufacturer: Microchip; PartNumber: MCP1602T-330I/MF; DatasheetVersion: revA, Oct-2007; PackageVersion: revBB, Aug-2009; PackageReference: DFN-MF8; PackageDescription: 8-Lead Plastic Dual Flat, No Lead Package (MF) - 3x3x0.9mm Body [DFN]; Supplier 1: Digi-Key; Supplier Part Number 1: MCP1602T-330I/MFTR-ND; Supplier 2: Mouser; Supplier Part Number 2: 579-MCP1602T-330I/MF; Mounting Technology: Surface Mount; ComponentLink1Description: Manufacturer URL; ComponentLink1URL: http://www.microchip.com/; ComponentLink2Description: Datasheet; ComponentLink2URL: http://ww1.microchip.com/downloads/en/DeviceDoc/22061a.pdf; ComponentLink3Description: Package Specification; ComponentLink3URL: http://www.microchip.com/stellent/groups/techpub_sg/documents/packagingspec/en012702.pdf
footprint DFN-MF8 (SON, 8-Leads, Body 3x3mm, Pitch 0.65mm, Microchip Recommended)
pins: 1 ~{SHDN} (in), 2 VCC (power), 3 PG (oc), 4 AGND (power), 5 VOUT (power), 6 VIN (power), 7 LX (out), 8 PGND (power), 9 EP (power)

## MCP1602T-330I/MS
designator U?
500mA Synchronous Buck Regulator with PG, 3.3V, 2MHz, 8-Pin MSOP, Industrial Temperature, Tape and Reel; Manufacturer: Microchip; PartNumber: MCP1602T-330I/MS; DatasheetVersion: revA, Oct-2007; PackageVersion: revBB, Aug-2009; PackageReference: MSOP-MS8; PackageDescription: 8-Lead Plastic Micro Small Outline Package (MS) [MSOP]; Supplier 1: Digi-Key; Supplier Part Number 1: MCP1602T-330I/MSTR-ND; Supplier 2: Mouser; Supplier Part Number 2: 579-MCP1602T-330I/MS; Mounting Technology: Surface Mount; ComponentLink1Description: Manufacturer URL; ComponentLink1URL: http://www.microchip.com/; ComponentLink2Description: Datasheet; ComponentLink2URL: http://ww1.microchip.com/downloads/en/DeviceDoc/22061a.pdf; ComponentLink3Description: Package Specification; ComponentLink3URL: http://www.microchip.com/stellent/groups/techpub_sg/documents/packagingspec/en012702.pdf
footprint MSOP-MS8_N (TSOP, 8-Leads, Body 3x3mm, Pitch 0.65mm, IPC Medium Density)
footprint MSOP-MS8_L (TSOP, 8-Leads, Body 3x3mm, Pitch 0.65mm, IPC High Density)
footprint MSOP-MS8_M (TSOP, 8-Leads, Body 3x3mm, Pitch 0.65mm, IPC Low Density)
pins: 1 ~{SHDN} (in), 2 VCC (power), 3 PG (oc), 4 AGND (power), 5 VOUT (power), 6 VIN (power), 7 LX (out), 8 PGND (power)

## MCP1602T-ADJI/MF
designator U?
500mA Synchronous Buck Regulator with PG, Adjustable Output, 2MHz, 8-Pin DFN, Industrial Temperature, Tape and Reel; Manufacturer: Microchip; PartNumber: MCP1602T-ADJI/MF; DatasheetVersion: revA, Oct-2007; PackageVersion: revBB, Aug-2009; PackageReference: DFN-MF8; PackageDescription: 8-Lead Plastic Dual Flat, No Lead Package (MF) - 3x3x0.9mm Body [DFN]; Supplier 1: Digi-Key; Supplier Part Number 1: MCP1602T-ADJI/MFTR-ND; Supplier 2: Mouser; Supplier Part Number 2: 579-MCP1602T-ADJI/MF; Mounting Technology: Surface Mount; ComponentLink1Description: Manufacturer URL; ComponentLink1URL: http://www.microchip.com/; ComponentLink2Description: Datasheet; ComponentLink2URL: http://ww1.microchip.com/downloads/en/DeviceDoc/22061a.pdf; ComponentLink3Description: Package Specification; ComponentLink3URL: http://www.microchip.com/stellent/groups/techpub_sg/documents/packagingspec/en012702.pdf
footprint DFN-MF8 (SON, 8-Leads, Body 3x3mm, Pitch 0.65mm, Microchip Recommended)
pins: 1 ~{SHDN} (in), 2 VCC (power), 3 PG (oc), 4 AGND (power), 5 VFB (in), 6 VIN (power), 7 LX (out), 8 PGND (power), 9 EP (power)

## MCP1602T-ADJI/MS
designator U?
500mA Synchronous Buck Regulator with PG, Adjustable Output, 2MHz, 8-Pin MSOP, Industrial Temperature, Tape and Reel; Manufacturer: Microchip; PartNumber: MCP1602T-ADJI/MS; DatasheetVersion: revA, Oct-2007; PackageVersion: revBB, Aug-2009; PackageReference: MSOP-MS8; PackageDescription: 8-Lead Plastic Micro Small Outline Package (MS) [MSOP]; Supplier 1: Digi-Key; Supplier Part Number 1: MCP1602T-ADJI/MSTR-ND; Supplier 2: Mouser; Supplier Part Number 2: 579-MCP1602T-ADJI/MS; Mounting Technology: Surface Mount; ComponentLink1Description: Manufacturer URL; ComponentLink1URL: http://www.microchip.com/; ComponentLink2Description: Datasheet; ComponentLink2URL: http://ww1.microchip.com/downloads/en/DeviceDoc/22061a.pdf; ComponentLink3Description: Package Specification; ComponentLink3URL: http://www.microchip.com/stellent/groups/techpub_sg/documents/packagingspec/en012702.pdf
footprint MSOP-MS8_N (TSOP, 8-Leads, Body 3x3mm, Pitch 0.65mm, IPC Medium Density)
footprint MSOP-MS8_L (TSOP, 8-Leads, Body 3x3mm, Pitch 0.65mm, IPC High Density)
footprint MSOP-MS8_M (TSOP, 8-Leads, Body 3x3mm, Pitch 0.65mm, IPC Low Density)
pins: 1 ~{SHDN} (in), 2 VCC (power), 3 PG (oc), 4 AGND (power), 5 VFB (in), 6 VIN (power), 7 LX (out), 8 PGND (power)

## MCP1602T-FIXI/MF
designator U?
500mA Synchronous Buck Regulator with PG, 2MHz, 8-Pin DFN, Industrial Temperature, Tape and Reel; Manufacturer: Microchip; PartNumber: MCP1602T-FIXI/MF; DatasheetVersion: revA, Oct-2007; PackageVersion: revBB, Aug-2009; PackageReference: DFN-MF8; PackageDescription: 8-Lead Plastic Dual Flat, No Lead Package (MF) - 3x3x0.9mm Body [DFN]; Mounting Technology: Surface Mount; ComponentLink1Description: Manufacturer URL; ComponentLink1URL: http://www.microchip.com/; ComponentLink2Description: Datasheet; ComponentLink2URL: http://ww1.microchip.com/downloads/en/DeviceDoc/22061a.pdf; ComponentLink3Description: Package Specification; ComponentLink3URL: http://www.microchip.com/stellent/groups/techpub_sg/documents/packagingspec/en012702.pdf
footprint DFN-MF8 (SON, 8-Leads, Body 3x3mm, Pitch 0.65mm, Microchip Recommended)
pins: 1 ~{SHDN} (in), 2 VCC (power), 3 PG (oc), 4 AGND (power), 5 VOUT (power), 6 VIN (power), 7 LX (out), 8 PGND (power), 9 EP (power)

## MCP1602T-FIXI/MS
designator U?
500mA Synchronous Buck Regulator with PG, 2MHz, 8-Pin MSOP, Industrial Temperature, Tape and Reel; Manufacturer: Microchip; PartNumber: MCP1602T-FIXI/MS; DatasheetVersion: revA, Oct-2007; PackageVersion: revBB, Aug-2009; PackageReference: MSOP-MS8; PackageDescription: 8-Lead Plastic Micro Small Outline Package (MS) [MSOP]; Mounting Technology: Surface Mount; ComponentLink1Description: Manufacturer URL; ComponentLink1URL: http://www.microchip.com/; ComponentLink2Description: Datasheet; ComponentLink2URL: http://ww1.microchip.com/downloads/en/DeviceDoc/22061a.pdf; ComponentLink3Description: Package Specification; ComponentLink3URL: http://www.microchip.com/stellent/groups/techpub_sg/documents/packagingspec/en012702.pdf
footprint MSOP-MS8_N (TSOP, 8-Leads, Body 3x3mm, Pitch 0.65mm, IPC Medium Density)
footprint MSOP-MS8_L (TSOP, 8-Leads, Body 3x3mm, Pitch 0.65mm, IPC High Density)
footprint MSOP-MS8_M (TSOP, 8-Leads, Body 3x3mm, Pitch 0.65mm, IPC Low Density)
pins: 1 ~{SHDN} (in), 2 VCC (power), 3 PG (oc), 4 AGND (power), 5 VOUT (power), 6 VIN (power), 7 LX (out), 8 PGND (power)

## MCP1603-120I/MC
designator U?
500mA Synchronous Buck Regulator, 1.2V, 2.0 MHz, 8-Pin DFN, Industrial Temperature; Manufacturer: Microchip; PartNumber: MCP1603-120I/MC; DatasheetVersion: revA, May-2007; PackageVersion: revBB, Aug-2009; PackageReference: DFN-MC8; PackageDescription: 8-Lead Plastic Dual Flat, No Lead Package (MC) - 2x3x0.9mm Body [DFN]; Supplier 1: Digi-Key; Supplier Part Number 1: MCP1603-120I/MC-ND; Supplier 2: Mouser; Supplier Part Number 2: 579-MCP1603-120I/MC; Mounting Technology: Surface Mount; ComponentLink1Description: Manufacturer URL; ComponentLink1URL: http://www.microchip.com/; ComponentLink2Description: Datasheet; ComponentLink2URL: http://ww1.microchip.com/downloads/en/DeviceDoc/22042a.pdf; ComponentLink3Description: Package Specification; ComponentLink3URL: http://www.microchip.com/stellent/groups/techpub_sg/documents/packagingspec/en012702.pdf
footprint DFN-MC8 (SON, 8-Leads, Body 2x3mm, Pitch 0.5mm, Microchip Recommended)
pins: 1 LX (out), 2 NC, 3 ~{SHDN} (in), 4 VOUT (out), 5 NC, 6 NC, 7 VIN (power), 8 GND (power), 9 EP (power)

## MCP1603-150I/MC
designator U?
500mA Synchronous Buck Regulator, 1.5V, 2.0 MHz, 8-Pin DFN, Industrial Temperature; Manufacturer: Microchip; PartNumber: MCP1603-150I/MC; DatasheetVersion: revA, May-2007; PackageVersion: revBB, Aug-2009; PackageReference: DFN-MC8; PackageDescription: 8-Lead Plastic Dual Flat, No Lead Package (MC) - 2x3x0.9mm Body [DFN]; Supplier 1: Digi-Key; Supplier Part Number 1: MCP1603-150I/MC-ND; Supplier 2: Mouser; Supplier Part Number 2: 579-MCP1603-150I/MC; Mounting Technology: Surface Mount; ComponentLink1Description: Manufacturer URL; ComponentLink1URL: http://www.microchip.com/; ComponentLink2Description: Datasheet; ComponentLink2URL: http://ww1.microchip.com/downloads/en/DeviceDoc/22042a.pdf; ComponentLink3Description: Package Specification; ComponentLink3URL: http://www.microchip.com/stellent/groups/techpub_sg/documents/packagingspec/en012702.pdf
footprint DFN-MC8 (SON, 8-Leads, Body 2x3mm, Pitch 0.5mm, Microchip Recommended)
pins: 1 LX (out), 2 NC, 3 ~{SHDN} (in), 4 VOUT (out), 5 NC, 6 NC, 7 VIN (power), 8 GND (power), 9 EP (power)

## MCP1603-180I/MC
designator U?
500mA Synchronous Buck Regulator, 1.8V, 2.0 MHz, 8-Pin DFN, Industrial Temperature; Manufacturer: Microchip; PartNumber: MCP1603-180I/MC; DatasheetVersion: revA, May-2007; PackageVersion: revBB, Aug-2009; PackageReference: DFN-MC8; PackageDescription: 8-Lead Plastic Dual Flat, No Lead Package (MC) - 2x3x0.9mm Body [DFN]; Supplier 1: Digi-Key; Supplier Part Number 1: MCP1603-180I/MC-ND; Supplier 2: Mouser; Supplier Part Number 2: 579-MCP1603-180I/MC; Mounting Technology: Surface Mount; ComponentLink1Description: Manufacturer URL; ComponentLink1URL: http://www.microchip.com/; ComponentLink2Description: Datasheet; ComponentLink2URL: http://ww1.microchip.com/downloads/en/DeviceDoc/22042a.pdf; ComponentLink3Description: Package Specification; ComponentLink3URL: http://www.microchip.com/stellent/groups/techpub_sg/documents/packagingspec/en012702.pdf
footprint DFN-MC8 (SON, 8-Leads, Body 2x3mm, Pitch 0.5mm, Microchip Recommended)
pins: 1 LX (out), 2 NC, 3 ~{SHDN} (in), 4 VOUT (out), 5 NC, 6 NC, 7 VIN (power), 8 GND (power), 9 EP (power)

## MCP1603-250I/MC
designator U?
500mA Synchronous Buck Regulator, 2.5V, 2.0 MHz, 8-Pin DFN, Industrial Temperature; Manufacturer: Microchip; PartNumber: MCP1603-250I/MC; DatasheetVersion: revA, May-2007; PackageVersion: revBB, Aug-2009; PackageReference: DFN-MC8; PackageDescription: 8-Lead Plastic Dual Flat, No Lead Package (MC) - 2x3x0.9mm Body [DFN]; Supplier 1: Digi-Key; Supplier Part Number 1: MCP1603-250I/MC-ND; Supplier 2: Mouser; Supplier Part Number 2: 579-MCP1603-250I/MC; Mounting Technology: Surface Mount; ComponentLink1Description: Manufacturer URL; ComponentLink1URL: http://www.microchip.com/; ComponentLink2Description: Datasheet; ComponentLink2URL: http://ww1.microchip.com/downloads/en/DeviceDoc/22042a.pdf; ComponentLink3Description: Package Specification; ComponentLink3URL: http://www.microchip.com/stellent/groups/techpub_sg/documents/packagingspec/en012702.pdf
footprint DFN-MC8 (SON, 8-Leads, Body 2x3mm, Pitch 0.5mm, Microchip Recommended)
pins: 1 LX (out), 2 NC, 3 ~{SHDN} (in), 4 VOUT (out), 5 NC, 6 NC, 7 VIN (power), 8 GND (power), 9 EP (power)

## MCP1603-330I/MC
designator U?
500mA Synchronous Buck Regulator, 3.3V, 2.0 MHz, 8-Pin DFN, Industrial Temperature; Manufacturer: Microchip; PartNumber: MCP1603-330I/MC; DatasheetVersion: revA, May-2007; PackageVersion: revBB, Aug-2009; PackageReference: DFN-MC8; PackageDescription: 8-Lead Plastic Dual Flat, No Lead Package (MC) - 2x3x0.9mm Body [DFN]; Supplier 1: Digi-Key; Supplier Part Number 1: MCP1603-330I/MC-ND; Supplier 2: Mouser; Supplier Part Number 2: 579-MCP1603-330I/MC; Mounting Technology: Surface Mount; ComponentLink1Description: Manufacturer URL; ComponentLink1URL: http://www.microchip.com/; ComponentLink2Description: Datasheet; ComponentLink2URL: http://ww1.microchip.com/downloads/en/DeviceDoc/22042a.pdf; ComponentLink3Description: Package Specification; ComponentLink3URL: http://www.microchip.com/stellent/groups/techpub_sg/documents/packagingspec/en012702.pdf
footprint DFN-MC8 (SON, 8-Leads, Body 2x3mm, Pitch 0.5mm, Microchip Recommended)
pins: 1 LX (out), 2 NC, 3 ~{SHDN} (in), 4 VOUT (out), 5 NC, 6 NC, 7 VIN (power), 8 GND (power), 9 EP (power)

## MCP1603-ADJI/MC
designator U?
500mA Synchronous Buck Regulator, Adjustable Output, 2MHz, 8-Pin DFN, Industrial Temperature; Manufacturer: Microchip; PartNumber: MCP1603-ADJI/MC; DatasheetVersion: revA, May-2007; PackageVersion: revBB, Aug-2009; PackageReference: DFN-MC8; PackageDescription: 8-Lead Plastic Dual Flat, No Lead Package (MC) - 2x3x0.9mm Body [DFN]; Supplier 1: Digi-Key; Supplier Part Number 1: MCP1603-ADJI/MC-ND; Supplier 2: Mouser; Supplier Part Number 2: 579-MCP1603-ADJI/MC; Mounting Technology: Surface Mount; ComponentLink1Description: Manufacturer URL; ComponentLink1URL: http://www.microchip.com/; ComponentLink2Description: Datasheet; ComponentLink2URL: http://ww1.microchip.com/downloads/en/DeviceDoc/22042a.pdf; ComponentLink3Description: Package Specification; ComponentLink3URL: http://www.microchip.com/stellent/groups/techpub_sg/documents/packagingspec/en012702.pdf
footprint DFN-MC8 (SON, 8-Leads, Body 2x3mm, Pitch 0.5mm, Microchip Recommended)
pins: 1 LX (out), 2 NC, 3 ~{SHDN} (in), 4 VFB (in), 5 NC, 6 NC, 7 VIN (power), 8 GND (power), 9 EP (power)

## MCP1603T-120I/MC
designator U?
500mA Synchronous Buck Regulator, 1.2V, 2.0 MHz, 8-Pin DFN, Industrial Temperature, Tape and Reel; Manufacturer: Microchip; PartNumber: MCP1603T-120I/MC; DatasheetVersion: revA, May-2007; PackageVersion: revBB, Aug-2009; PackageReference: DFN-MC8; PackageDescription: 8-Lead Plastic Dual Flat, No Lead Package (MC) - 2x3x0.9mm Body [DFN]; Supplier 1: Digi-Key; Supplier Part Number 1: MCP1603T-120I/MC-ND; Supplier 2: Mouser; Supplier Part Number 2: 579-MCP1603T-120I/MC; Mounting Technology: Surface Mount; ComponentLink1Description: Manufacturer URL; ComponentLink1URL: http://www.microchip.com/; ComponentLink2Description: Datasheet; ComponentLink2URL: http://ww1.microchip.com/downloads/en/DeviceDoc/22042a.pdf; ComponentLink3Description: Package Specification; ComponentLink3URL: http://www.microchip.com/stellent/groups/techpub_sg/documents/packagingspec/en012702.pdf
footprint DFN-MC8 (SON, 8-Leads, Body 2x3mm, Pitch 0.5mm, Microchip Recommended)
pins: 1 LX (out), 2 NC, 3 ~{SHDN} (in), 4 VOUT (out), 5 NC, 6 NC, 7 VIN (power), 8 GND (power), 9 EP (power)

## MCP1603T-120I/OS
designator U?
500mA Synchronous Buck Regulator, 1.2V, 2.0 MHz, 5-Pin TSOT, Industrial Temperature, Tape and Reel; Manufacturer: Microchip; PartNumber: MCP1603T-120I/OS; DatasheetVersion: revA, May-2007; PackageVersion: revBB, Aug-2009; PackageReference: TSOT-OS5; PackageDescription: 5-Lead Plastic Small Outline Transistor (OS) [TSOT]; Supplier 1: Digi-Key; Supplier Part Number 1: MCP1603T-120I/OSTR-ND; Supplier 2: Digi-Key; Supplier Part Number 2: MCP1603T-120I/OSCT-ND; Supplier 3: Digi-Key; Supplier Part Number 3: MCP1603T-120I/OSDKR-ND; Supplier 4: Newark; Supplier Part Number 4: 84R5173; Supplier 5: Newark; Supplier Part Number 5: 22K1324; Supplier 6: Mouser; Supplier Part Number 6: 579-MCP1603T-120I/OS; Mounting Technology: Surface Mount; ComponentLink1Description: Manufacturer URL; ComponentLink1URL: http://www.microchip.com/; ComponentLink2Description: Datasheet; ComponentLink2URL: http://ww1.microchip.com/downloads/en/DeviceDoc/22042a.pdf; ComponentLink3Description: Package Specification; ComponentLink3URL: http://www.microchip.com/stellent/groups/techpub_sg/documents/packagingspec/en012702.pdf
footprint TSOT-OS5_N (SOT23, 5-Leads, Body 2.9x1.6mm, Pitch 0.95mm, Lead Span 2.8mm, IPC Medium Density)
footprint TSOT-OS5_L (SOT23, 5-Leads, Body 2.9x1.6mm, Pitch 0.95mm, Lead Span 2.8mm, IPC High Density)
footprint TSOT-OS5_M (SOT23, 5-Leads, Body 2.9x1.6mm, Pitch 0.95mm, Lead Span 2.8mm, IPC Low Density)
pins: 1 VIN (power), 2 GND (power), 3 ~{SHDN} (in), 4 VOUT (out), 5 LX (out)

## MCP1603T-150I/MC
designator U?
500mA Synchronous Buck Regulator, 1.5V, 2.0 MHz, 8-Pin DFN, Industrial Temperature, Tape and Reel; Manufacturer: Microchip; PartNumber: MCP1603T-150I/MC; DatasheetVersion: revA, May-2007; PackageVersion: revBB, Aug-2009; PackageReference: DFN-MC8; PackageDescription: 8-Lead Plastic Dual Flat, No Lead Package (MC) - 2x3x0.9mm Body [DFN]; Supplier 1: Digi-Key; Supplier Part Number 1: MCP1603T-150I/MC-ND; Supplier 2: Mouser; Supplier Part Number 2: 579-MCP1603T-150I/MC; Mounting Technology: Surface Mount; ComponentLink1Description: Manufacturer URL; ComponentLink1URL: http://www.microchip.com/; ComponentLink2Description: Datasheet; ComponentLink2URL: http://ww1.microchip.com/downloads/en/DeviceDoc/22042a.pdf; ComponentLink3Description: Package Specification; ComponentLink3URL: http://www.microchip.com/stellent/groups/techpub_sg/documents/packagingspec/en012702.pdf
footprint DFN-MC8 (SON, 8-Leads, Body 2x3mm, Pitch 0.5mm, Microchip Recommended)
pins: 1 LX (out), 2 NC, 3 ~{SHDN} (in), 4 VOUT (out), 5 NC, 6 NC, 7 VIN (power), 8 GND (power), 9 EP (power)

## MCP1603T-150I/OS
designator U?
500mA Synchronous Buck Regulator, 1.5V, 2.0 MHz, 5-Pin TSOT, Industrial Temperature, Tape and Reel; Manufacturer: Microchip; PartNumber: MCP1603T-150I/OS; DatasheetVersion: revA, May-2007; PackageVersion: revBB, Aug-2009; PackageReference: TSOT-OS5; PackageDescription: 5-Lead Plastic Small Outline Transistor (OS) [TSOT]; Supplier 1: Digi-Key; Supplier Part Number 1: MCP1603T-150I/OS-ND; Supplier 2: Mouser; Supplier Part Number 2: 579-MCP1603T-150I/OS; Mounting Technology: Surface Mount; ComponentLink1Description: Manufacturer URL; ComponentLink1URL: http://www.microchip.com/; ComponentLink2Description: Datasheet; ComponentLink2URL: http://ww1.microchip.com/downloads/en/DeviceDoc/22042a.pdf; ComponentLink3Description: Package Specification; ComponentLink3URL: http://www.microchip.com/stellent/groups/techpub_sg/documents/packagingspec/en012702.pdf
footprint TSOT-OS5_N (SOT23, 5-Leads, Body 2.9x1.6mm, Pitch 0.95mm, Lead Span 2.8mm, IPC Medium Density)
footprint TSOT-OS5_L (SOT23, 5-Leads, Body 2.9x1.6mm, Pitch 0.95mm, Lead Span 2.8mm, IPC High Density)
footprint TSOT-OS5_M (SOT23, 5-Leads, Body 2.9x1.6mm, Pitch 0.95mm, Lead Span 2.8mm, IPC Low Density)
pins: 1 VIN (power), 2 GND (power), 3 ~{SHDN} (in), 4 VOUT (out), 5 LX (out)

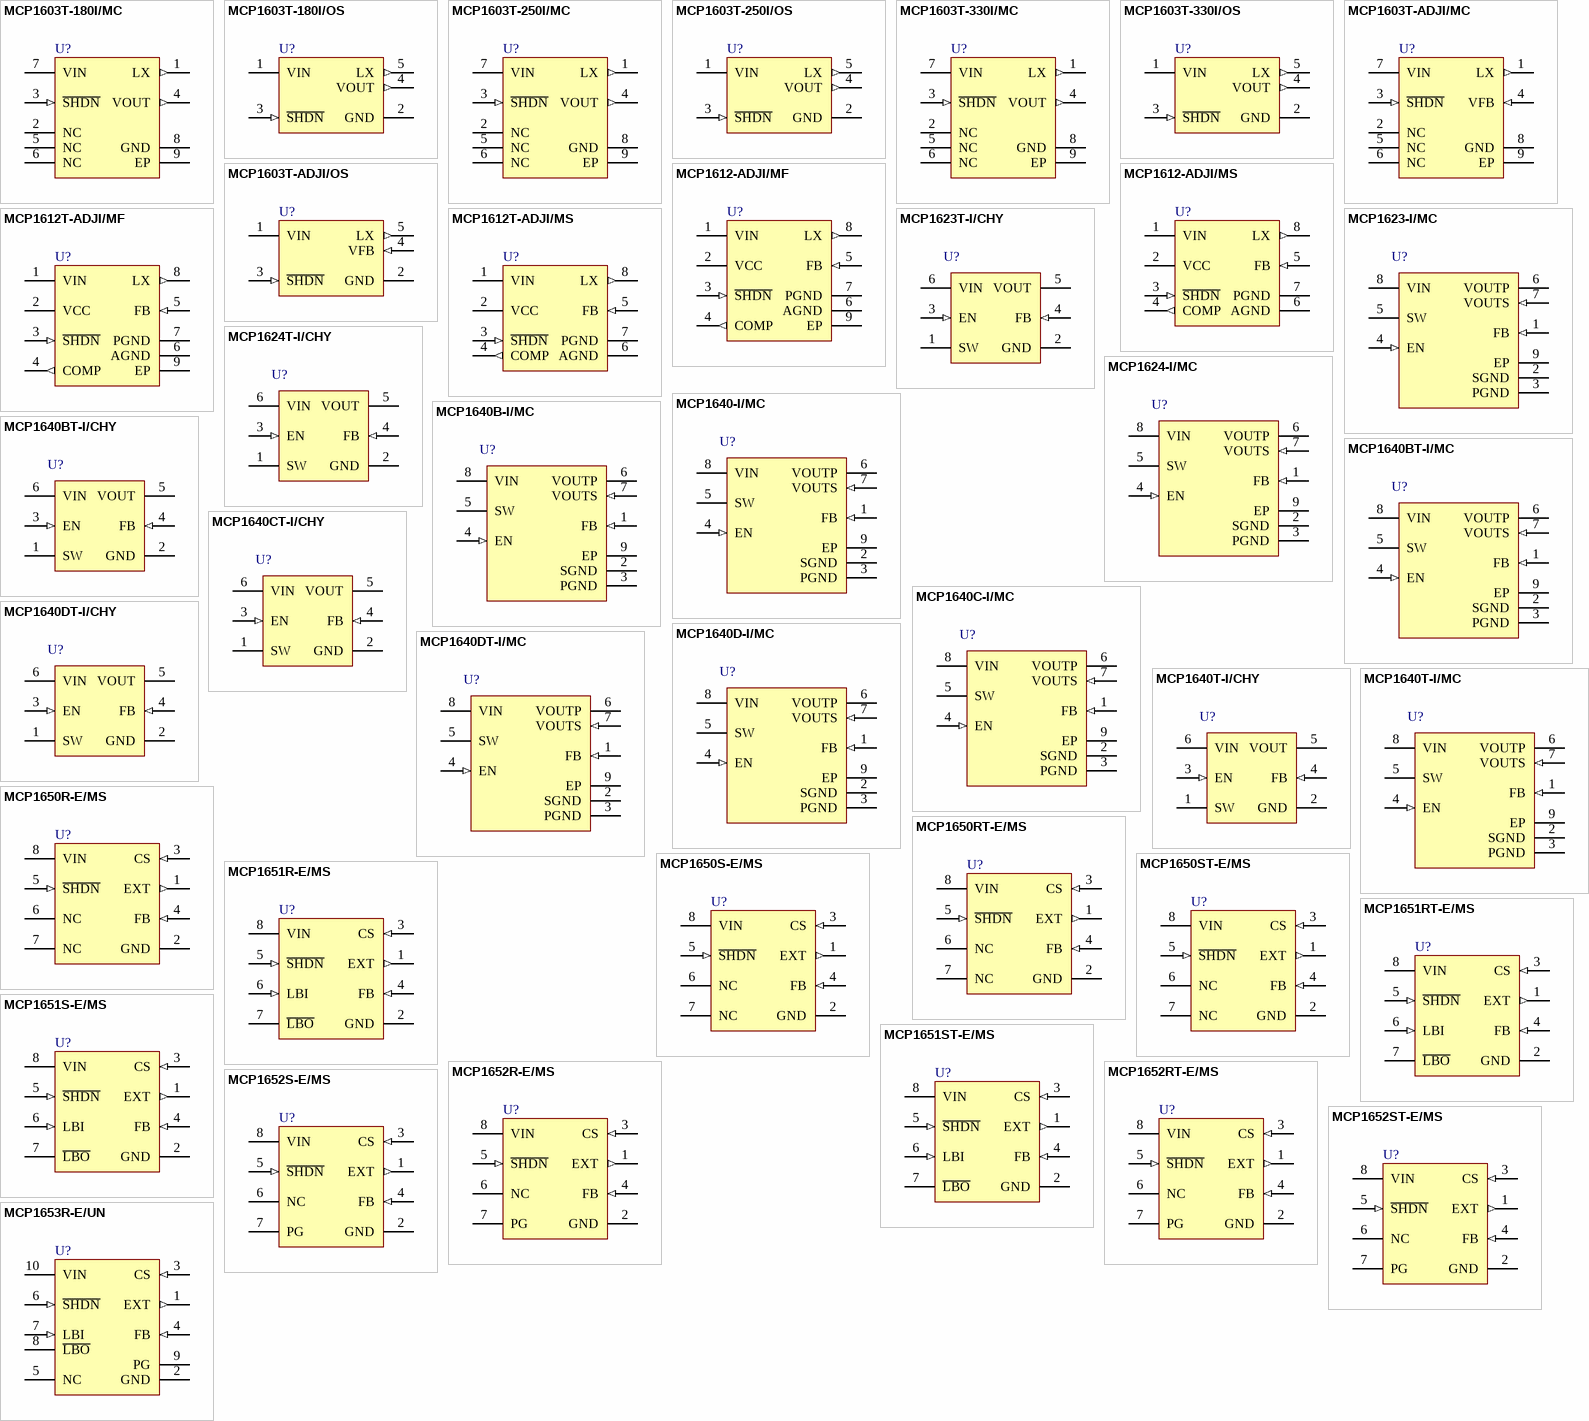
[diagram p1: symbols MCP1603T-180I/MC to MCP1653R-E/UN]

## MCP1603T-180I/MC
designator U?
500mA Synchronous Buck Regulator, 1.8V, 2.0 MHz, 8-Pin DFN, Industrial Temperature, Tape and Reel; Manufacturer: Microchip; PartNumber: MCP1603T-180I/MC; DatasheetVersion: revA, May-2007; PackageVersion: revBB, Aug-2009; PackageReference: DFN-MC8; PackageDescription: 8-Lead Plastic Dual Flat, No Lead Package (MC) - 2x3x0.9mm Body [DFN]; Supplier 1: Digi-Key; Supplier Part Number 1: MCP1603T-180I/MC-ND; Supplier 2: Mouser; Supplier Part Number 2: 579-MCP1603T-180I/MC; Mounting Technology: Surface Mount; ComponentLink1Description: Manufacturer URL; ComponentLink1URL: http://www.microchip.com/; ComponentLink2Description: Datasheet; ComponentLink2URL: http://ww1.microchip.com/downloads/en/DeviceDoc/22042a.pdf; ComponentLink3Description: Package Specification; ComponentLink3URL: http://www.microchip.com/stellent/groups/techpub_sg/documents/packagingspec/en012702.pdf
footprint DFN-MC8 (SON, 8-Leads, Body 2x3mm, Pitch 0.5mm, Microchip Recommended)
pins: 1 LX (out), 2 NC, 3 ~{SHDN} (in), 4 VOUT (out), 5 NC, 6 NC, 7 VIN (power), 8 GND (power), 9 EP (power)